# EAGLE library part TC2001 (library Audio-Power-amlifier V.2.0)
TRIPATH TECHNOLOGY
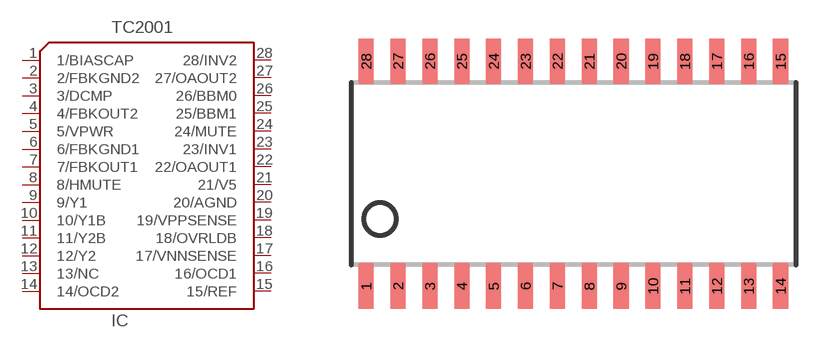
[diagram p88: symbol with the pads of SOIC28L; footprint SOIC28L]

Designator prefix IC

## TC2001  [SOIC28L]
1  1/BIASCAP
2  2/FBKGND2  pwr
3  3/DCMP
4  4/FBKOUT2  out
5  5/VPWR  pwr
6  6/FBKGND1  pwr
7  7/FBKOUT1  out
8  8/HMUTE
9  9/Y1
10  10/Y1B
11  11/Y2B
12  12/Y2
13  13/NC  nc
14  14/OCD2
15  15/REF
16  16/OCD1
17  17/VNNSENSE
18  18/OVRLDB
19  19/VPPSENSE
20  20/AGND  pwr
21  21/V5  pwr
22  22/OAOUT1  out
23  23/INV1  in
24  24/MUTE
25  25/BBM1
26  26/BBM0
27  27/OAOUT2  pwr
28  28/INV2  in

## Footprint SOIC28L (pad centres in mm)
SMALL OUTLINE PACKAGE 17.9 x 10.3
smd 0.6 x 1.8: 1 -8.255,-4.475; 2 -6.985,-4.475; 3 -5.715,-4.475; 4 -4.445,-4.475; 5 -3.175,-4.475; 6 -1.905,-4.475; 7 -0.635,-4.475; 8 0.635,-4.475; 9 1.905,-4.475; 10 3.175,-4.475; 11 4.445,-4.475; 12 5.715,-4.475; 13 6.985,-4.475; 14 8.255,-4.475; 15 8.255,4.475; 16 6.985,4.475; 17 5.715,4.475; 18 4.445,4.475; 19 3.175,4.475; 20 1.905,4.475; 21 0.635,4.475; 22 -0.635,4.475; 23 -1.905,4.475; 24 -3.175,4.475; 25 -4.445,4.475; 26 -5.715,4.475; 27 -6.985,4.475; 28 -8.255,4.475